# Altium integrated library ERJ-1TYF100U.IntLib: 1 symbol
Pins are listed as number, name and electrical type; pins without a type are passive.

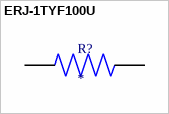
[diagram p0: symbol ERJ-1TYF100U]

## ERJ-1TYF100U
designator R?
RES, THICK FILM, 10R, 1%, 1W, 2512; MP: ERJ-1TYF100U; Package: None; Price: None; Value: *; Availability: Unavailable
footprint RESC6432X70N
pins: 1, 2